# Altium footprint library GSM.PcbLib: 20 footprints (part 1 of 2)
Each footprint in its own frame and in the unit in brackets; x right, y up, seen from the top. Pads: shape width x height; smd on the part's side, far side on the other; paste and mask are expansions set on the pad; w line width, h text height; cw(c..) or ccw(c..) is an arc to the next point about the centre after c.
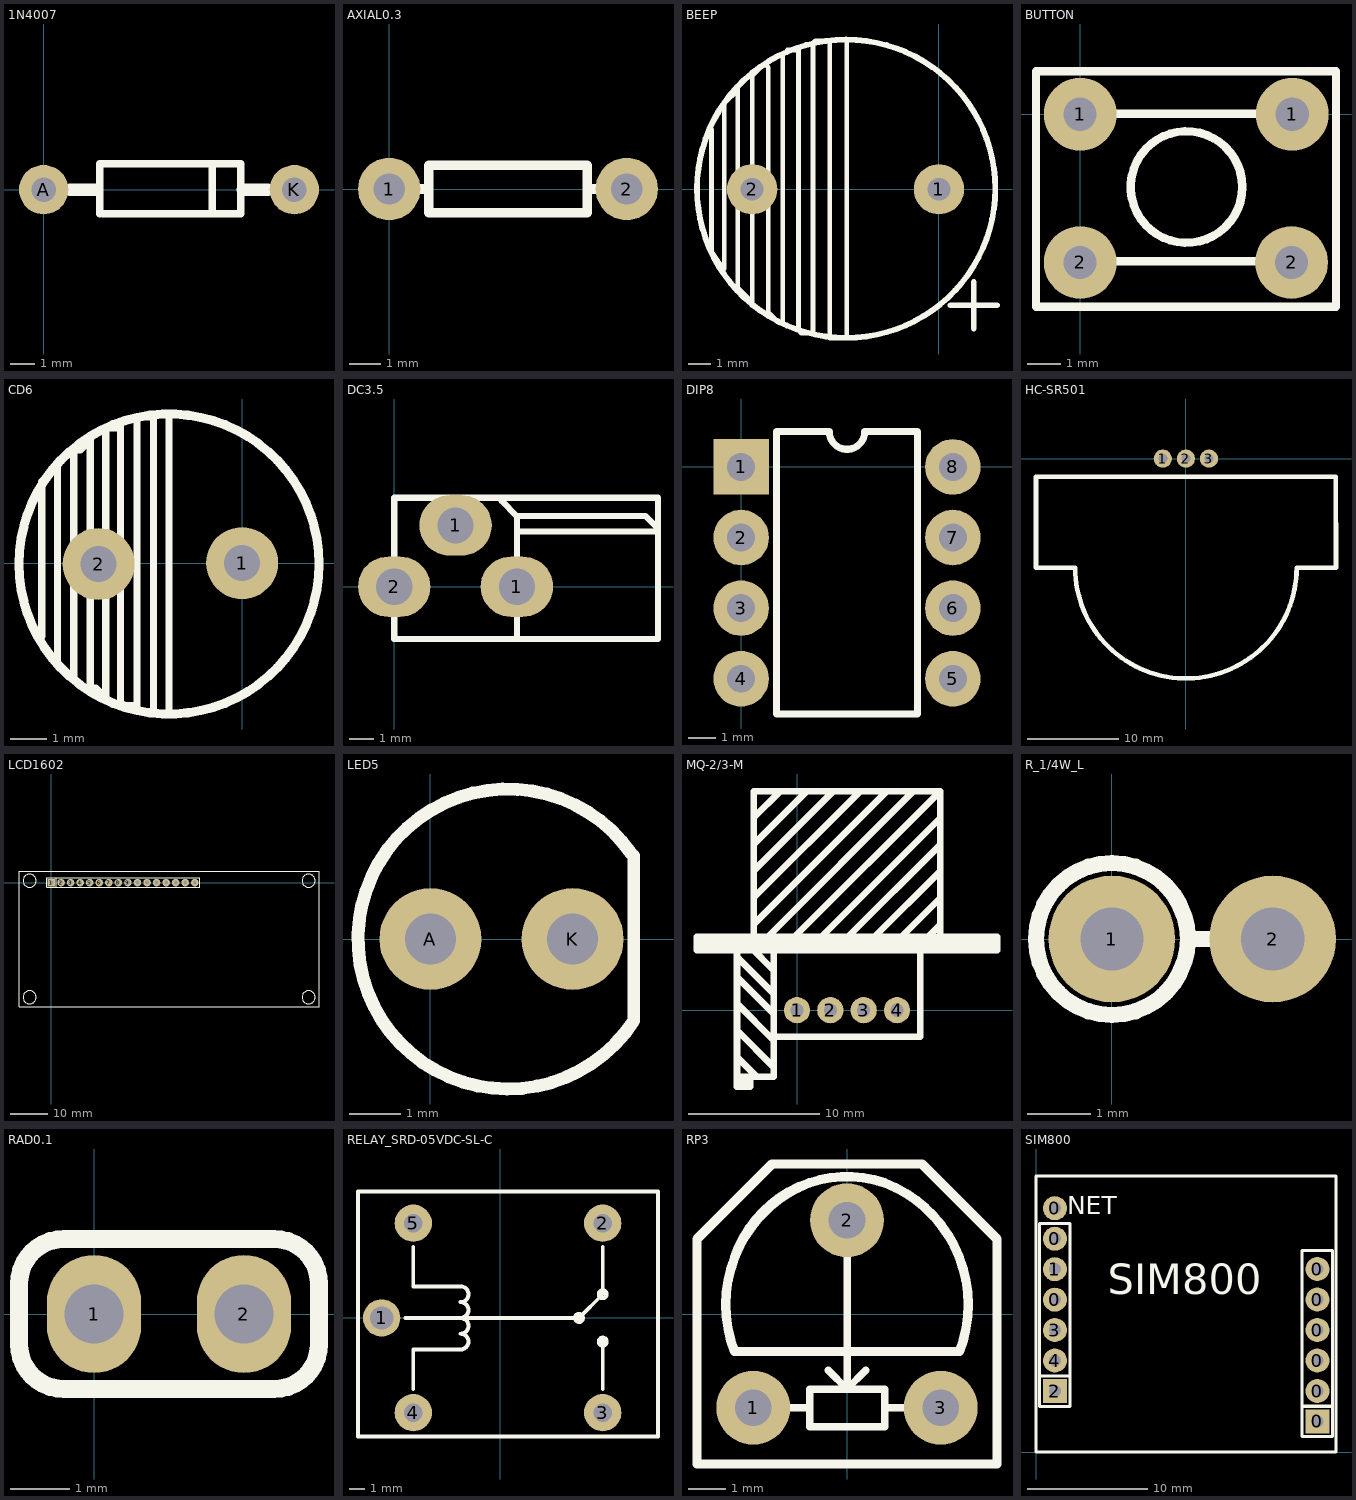
[diagram p0: the footprints below, top view; thin cyan lines are the x and y axes]

## 1N4007 [mm]
pads (2):
  round 2 hole 1: A(0,0) K(10.16,0)
Top Overlay:
  lines w0.305: 2.267,-0.98 2.267,1.052 7.982,1.052 7.982,-0.98 2.394,-0.98 ; 6.839,-0.98 6.839,1.052
  lines w0.508: 1.08,0 2.08,0 ; 8.08,0 9.08,0

## AXIAL0.3 [mm]
pads (2):
  round 2 hole 1: 1(0,0) 2(7.62,0)
Top Overlay:
  lines w0.305: 0.508,0 1.27,0 ; 6.462,0 7.112,0 ; 1.27,-0.762 6.35,-0.762 6.35,0 6.35,0.762 1.27,0.762 1.27,-0.762

## BEEP [mm]
pads (2):
  round 2.2 hole 1: 1(0,0) 2(-8.179,0)
Top Overlay:
  circle w0.254: c-4.064,0.025 r6.528
  lines w0.203: -9.957,2.616 -9.957,-2.718 -9.423,-3.505 -9.398,-3.48 -9.398,3.759 -8.814,4.343 -8.814,4.369 -8.814,-4.318 -8.204,-4.928 -8.179,-4.928 -8.179,4.978 -7.722,5.436 -7.569,5.436 -7.468,5.334 -7.468,-5.385 -7.01,-5.842 -6.833,-5.842 -6.833,5.893 -6.629,6.096 -6.147,6.096 -6.147,-6.172 -6.02,-6.299 -5.512,-6.299 -5.512,6.401 -5.41,6.502 -4.775,6.502 -4.775,-6.528 -4.039,-6.528 -4.039,6.502
  lines w0.254: 0.508,-5.08 2.032,-5.08 2.54,-5.08 ; 1.524,-6.096 1.524,-4.064

## BUTTON [mm]
pads (4):
  round 2.2 hole 1: 1(0,0) 1(6.41,0) 2(0,-4.48) 2(6.39,-4.48)
Top Overlay:
  circle w0.254: c3.214,-2.2 r1.686
  lines w0.254: 0.079,0.013 6.683,0.013 ; 0.163,-4.44 6.64,-4.44 ; -1.336,-5.816 7.732,-5.816 7.732,1.296 -1.336,1.296 -1.336,0.92 -1.336,-5.816

## CD6 [mm]
pads (2):
  round 2 hole 1: 1(0,0) 2(-3.988,-0.025)
Top Overlay:
  circle w0.254: c-2.032,-0.025 r4.166
  lines w0.203: -5.588,-2.057 -5.563,-2.032 -5.563,2.261 -5.131,2.692 -5.131,-2.769 -5.08,-2.819 -4.674,-3.226 -4.674,3.15 -4.496,3.15 -4.216,3.429 -4.216,-3.454 -4.191,-3.48 -4.064,-3.48 -3.785,-3.759 -3.785,3.734 -3.81,3.759 -3.48,3.759 -3.378,3.861 -3.378,-3.861 -3.277,-3.962 -3.048,-3.962 -2.921,-4.089 -2.921,4.064 -2.464,4.064 -2.464,-4.115 -2.413,-4.166 -2.032,-4.166 -2.032,4.089

## DC3.5 [mm]
pads (3):
  oval 3x2.5 hole 1.5: 1(2.54,2.54) 1(5.08,0) 2(0,0)
Top Overlay:
  lines w0.254: 0,-0.508 0.127,-0.635 ; 4.445,3.556 5.08,2.921 ; 5.207,2.921 10.414,2.921 10.922,2.413 ; 5.425,2.921 5.08,2.921 ; 10.925,2.286 5.08,2.286 ; 5.08,-2.159 10.925,-2.159 10.925,3.683 0,3.683 0,-2.159 5.08,-2.159 ; 5.08,-2.159 5.08,2.286 ; 5.08,2.286 5.08,2.921

## DIP8 [mm]
pads (8):
  rect 2x2 hole 1: 1(0,0)
  round 2 hole 1: 2(0,-2.54) 3(0,-5.08) 4(0,-7.62) 5(7.62,-7.62) 6(7.62,-5.08) 7(7.62,-2.54) 8(7.62,0)
Top Overlay:
  lines w0.254: 1.27,-8.89 1.27,1.27 3.175,1.27 ccw(c3.81,1.27) 4.445,1.27 6.35,1.27 6.35,-8.89 1.27,-8.89

## HC-SR501 [mm]
pads (3):
  round 2 hole 1: 1(-2.54,0) 2(0,0) 3(2.54,0)
Top Overlay:
  lines w0.013: 13.192,-12 16.52,-12
  lines w0.508: -16.5,-12 -12.192,-12 ccw(c0,-12) 12.192,-12 16.52,-12 16.5,-2 -16.5,-2 -16.5,-12

## LCD1602 [mm]
pads (16):
  rect 2x2 hole 1: 1(0,0)
  round 2 hole 1: 2(2.54,0) 3(5.08,0) 4(7.62,0) 5(10.16,0) 6(12.7,0) 7(15.24,0) 8(17.78,0) 9(20.32,0) 10(22.86,0) 11(25.4,0) 12(27.94,0) 13(30.48,0) 14(33.02,0) 15(35.56,0) 16(38.1,0)
Top Overlay:
  circle w0.254: c68.354,0.508 r1.75
  circle w0.254: c68.354,-30.48 r1.75
  circle w0.254: c-5.814,-30.48 r1.75
  circle w0.254: c-5.814,0.508 r1.75
  lines w0.254: 1.27,-1.27 1.27,1.27 ; -8.636,-33.02 71.12,-33.02 71.12,-32.004 71.12,3.048 -8.636,3.048 -8.636,-32.004 -8.636,-33.02 ; -1.27,-1.27 39.37,-1.27 39.37,1.27 -1.27,1.27 -1.27,-1.27

## LED5 [mm]
pads (2):
  round 2 hole 1: A(0,0) K(2.794,0)
Top Overlay:
  lines w0.254: 3.941,1.684 ccw(c1.524,0) 3.994,-1.605 3.994,1.631

## MQ-2/3-M [mm]
pads (4):
  round 2 hole 1: 1(0,0) 2(2.54,0) 3(5.08,0) 4(7.62,0)
Top Overlay:
  lines w0.508: -7.62,5.08 15.24,5.08 ; -4.572,-5.588 -3.556,-5.588 ; -4.572,-5.08 -1.778,-5.08 -1.778,-1.27 ; -4.572,-3.556 -3.048,-5.08 ; -4.572,-1.524 -1.778,-4.318 ; -4.572,0.508 -1.778,-2.286 ; -4.572,2.54 -1.778,-0.254 ; -4.572,4.064 -1.778,1.27 ; -4.572,4.572 -4.572,-5.842 -3.556,-5.842 -3.556,-5.08 ; -3.556,4.826 -1.778,3.048 ; -3.302,5.516 -3.302,16.692 10.922,16.692 ; -3.302,6.532 6.858,16.692 ; -3.302,8.564 4.826,16.692 ; -3.302,10.596 2.794,16.692 ; -3.302,12.628 0.762,16.692 ; -3.302,14.66 -1.27,16.692 ; -2.286,5.516 8.89,16.692 ; -1.778,4.5 -1.778,-2.032 9.398,-2.032 9.398,4.5 ; -0.254,5.516 10.922,16.692 ; 1.778,5.516 10.922,14.66 ; 3.81,5.516 10.922,12.628 ; 5.842,5.516 10.922,10.596 ; 7.874,5.516 10.922,8.564 ; 9.906,5.516 10.922,6.532 ; 10.922,5.516 10.922,16.692 ; -7.62,4.572 -7.62,5.588 15.24,5.588 15.24,4.572 -7.62,4.572

## R_1/4W_L [mm]
pads (2):
  round 2 hole 1: 1(0,0) 2(2.54,0)
Top Overlay:
  circle w0.254: c0,0 r1.2
  lines w0.254: 1.2,0 1.524,0

## RAD0.1 [mm]
pads (2):
  oval 1.6x2 hole 1: 1(0,0) 2(2.54,0)
Top Overlay:
  lines w0.305: -1.27,-0.508 ccw(c-0.508,-0.508) -0.508,-1.27 3.048,-1.27 ccw(c3.048,-0.508) 3.81,-0.508 3.81,0 3.81,0.508 ccw(c3.048,0.508) 3.048,1.27 -0.508,1.27 ccw(c-0.508,0.508) -1.27,0.508 -1.27,0 -1.27,-0.508

## RELAY_SRD-05VDC-SL-C [mm]
pads (5):
  round 2.4 hole 1.5: 1(-7.62,0)
  round 2.4 hole 1.2: 2(6.604,6.096) 3(6.604,-6.096) 4(-5.588,-6.096) 5(-5.588,6.096)
Top Overlay:
  circle w0.254: c6.604,-1.524 r0.254
  circle w0.254: c6.604,1.524 r0.254
  circle w0.254: c5.08,0 r0.254
  lines w0.254: -6.096,0 4.064,0 4.572,0 5.08,0 6.604,1.524 6.604,4.572 ; -5.588,-4.572 -5.588,-2.032 -2.54,-2.032 ccw(c-2.54,-1.524) -2.032,-1.524 ccw(c-2.54,-1.524) -2.54,-1.016 ccw(c-2.54,-0.508) -2.032,-0.508 ccw(c-2.54,-0.508) -2.54,0 ccw(c-2.54,0.508) -2.032,0.508 ccw(c-2.54,0.508) -2.54,1.016 ccw(c-2.54,1.524) -2.032,1.524 ccw(c-2.54,1.524) -2.54,2.032 -5.588,2.032 -5.588,4.572 ; 6.604,-4.572 6.604,-1.524 ; -9.144,-7.62 -9.144,8.128 10.16,8.128 10.16,-7.62 -9.144,-7.62

## RP3 [mm]
pads (3):
  round 2 hole 1: 1(-2.54,-2.54) 2(0,2.54) 3(2.54,-2.54)
Top Overlay:
  lines w0.203: -2.54,-2.54 -1.016,-2.54 ; -0.508,-1.524 0,-2.032 ; 0,1.524 0,0 0,-0.508 0,-2.032 ; 0.508,-1.524 0,-2.032 ; 1.016,-2.54 2.54,-2.54 ; -1.016,-2.54 -1.016,-3.048 1.016,-3.048 1.016,-2.032 -1.016,-2.032 -1.016,-2.54
  lines w0.254: -3.048,1.524 cw(c0,0.508) 1.016,3.556 cw(c-0.254,0.254) 3.048,-1.016 -3.048,-1.016 cw(c0.254,0.254) -1.016,3.556 ; -4.064,-4.064 4.064,-4.064 4.064,2.032 2.032,4.064 -2.032,4.064 -4.064,2.032 -4.064,-4.064

## SIM800 [mm]
pads (13):
  round 2 hole 1: 0(1.575,12.695) 0(1.575,17.775) 0(1.575,20.315) 0(23.45,5.083) 0(23.45,7.623) 0(23.45,10.163) 0(23.45,12.703) 0(23.45,15.243) 1(1.575,15.235) 3(1.575,10.155) 4(1.575,7.615)
  rect 2x2 hole 1: 0(23.45,2.543) 2(1.575,5.075)
Top Overlay:
  lines w0.254: 0.305,6.345 2.845,6.345 ; 22.175,16.8 24.715,16.8 ; 22.18,3.813 24.72,3.813 ; 22.18,16.8 22.18,1.273 24.72,1.273 24.72,16.8 ; 0,0 25,0 25,23 0,23 0,0 ; 0.305,3.805 0.305,17 0.305,19.045 0.813,19.045 2.845,19.045 2.845,17 2.845,3.805 0.305,3.805
  text "SIM800" at 5.975,13.15 h2.52
  text "NET" at 2.591,19.807 h1.52